# EAGLE library part AD9837 (library SparkFun-IC-Special-Function)
Programmable waveform generator Sine, triangular, and square wave outputs Datasheet <https://cdn.sparkfun.com/datasheets/BreakoutBoards/AD9837.PDF> SparkFun Products SparkFun MiniGen - Pro Mini Signal Generator Shield <https://www.sparkfun.com/products/11420> (BOB-11420)
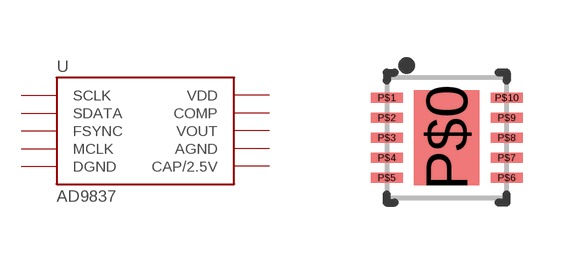
[diagram p17: symbol with the pads of AD9837; footprint AD9837]

Designator prefix -

## AD9837 (PROD_ID: IC-11223; VALUE: AD9837BCPZ)  [AD9837]
P$0  DGND
P$1  COMP
P$2  VDD
P$3  CAP/2.5V
P$4  DGND
P$5  MCLK
P$6  SDATA
P$7  SCLK
P$8  FSYNC
P$9  AGND
P$10  VOUT

## Footprint AD9837 (pad centres in mm)
smd 1.64 x 2.38: P$0 0,0
smd 0.8 x 0.25: P$1 -1.5,1; P$2 -1.5,0.5; P$3 -1.5,0; P$4 -1.5,-0.5; P$5 -1.5,-1; P$6 1.5,-1; P$7 1.5,-0.5; P$8 1.5,0; P$9 1.5,0.5; P$10 1.5,1